# Altium footprint library DXPpcb.PCBLIB: 575 footprints (part 15 of 36)
Each footprint in its own frame and in the unit in brackets; x right, y up, seen from the top. Pads: shape width x height; smd on the part's side, far side on the other; paste and mask are expansions set on the pad; w line width, h text height; cw(c..) or ccw(c..) is an arc to the next point about the centre after c.
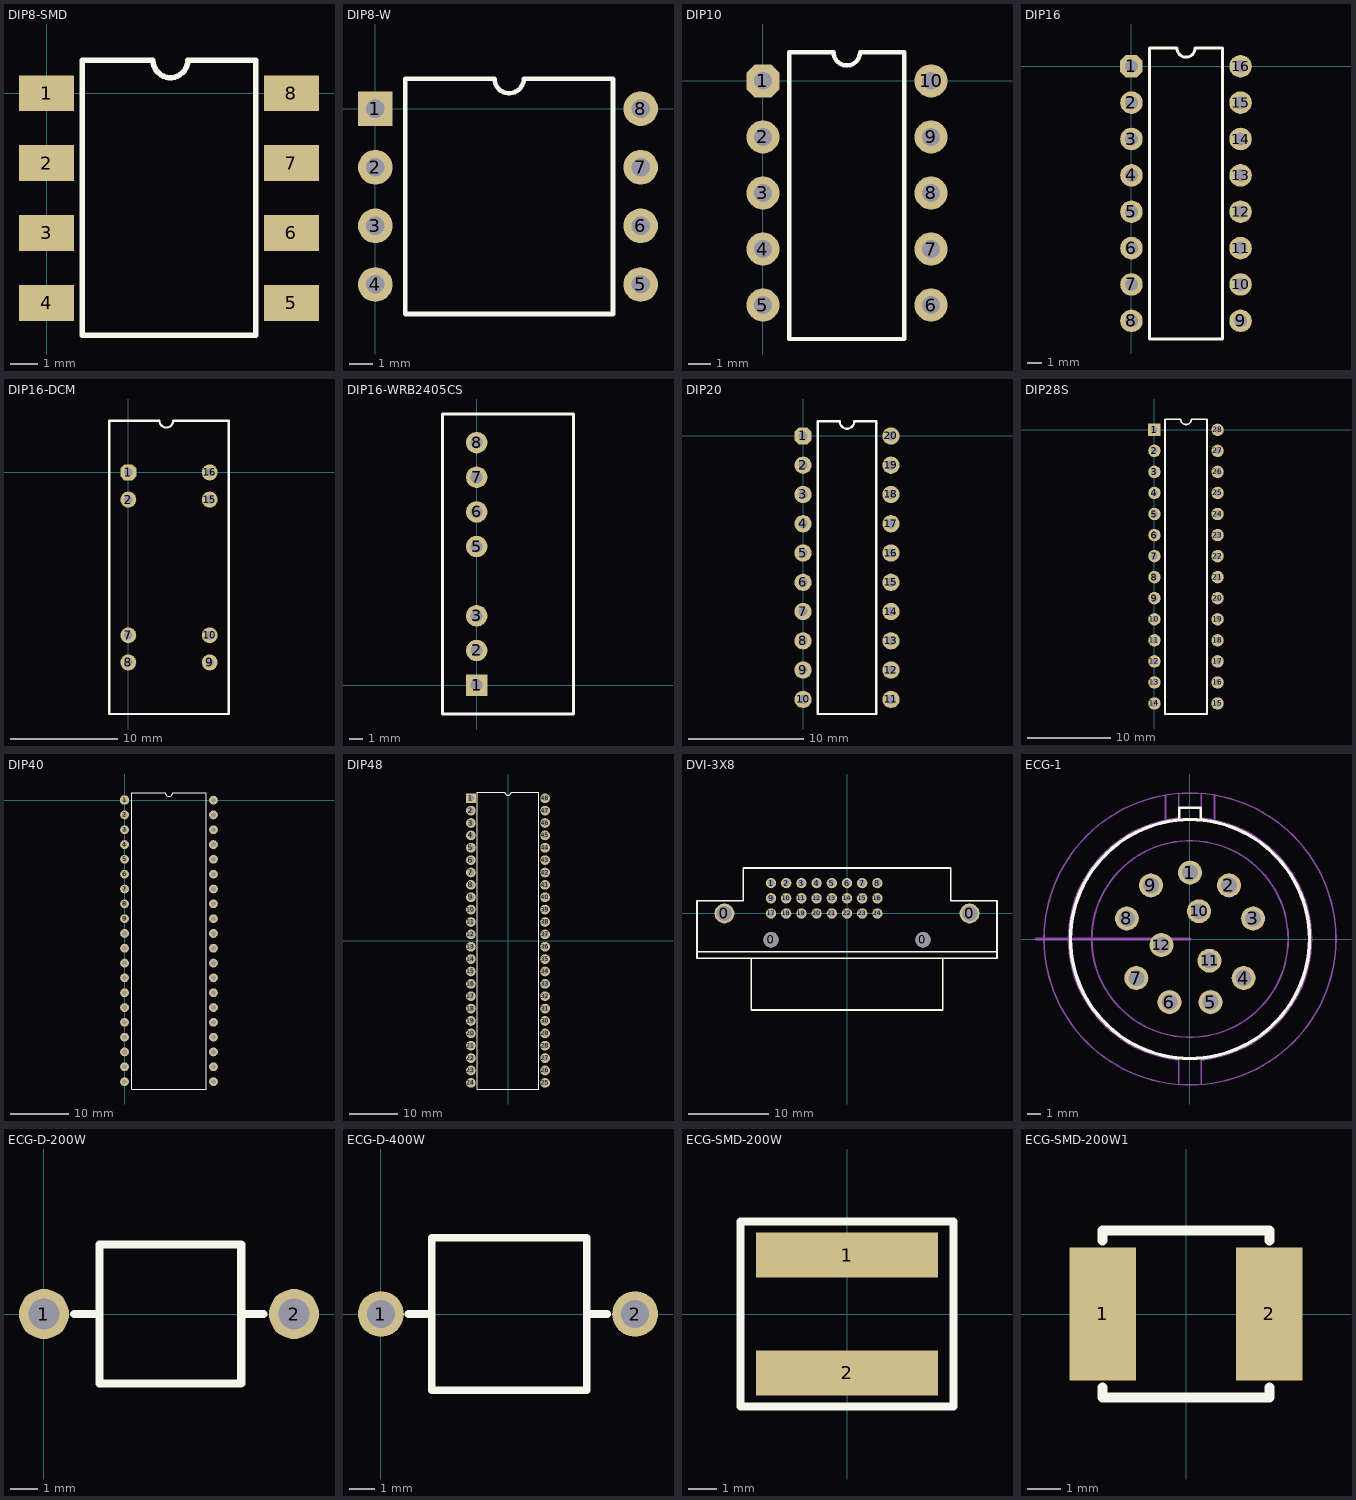
[diagram p14: the footprints below, top view; thin cyan lines are the x and y axes]

## DIP8-SMD [mm]
pads (8):
  rect 2x1.3 smd: 1(0,0) 2(0,-2.54) 3(0,-5.08) 4(0,-7.62) 5(8.9,-7.62) 6(8.9,-5.08) 7(8.9,-2.54) 8(8.9,0)
TopOverlay:
  lines w0.2: 1.3,-8.8 1.3,1.2 3.865,1.2 ccw(c4.5,1.2) 5.135,1.2 7.6,1.2 7.6,-8.8 1.3,-8.8

## DIP8-W [mm]
pads (8):
  rect 1.5x1.5 hole 0.8: 1(0,0)
  round 1.5 hole 0.8: 2(0,-2.54) 3(0,-5.08) 4(0,-7.62) 5(11.5,-7.62) 6(11.5,-5.08) 7(11.5,-2.54) 8(11.5,0)
TopOverlay:
  lines w0.2: 1.3,-8.9 10.3,-8.9 10.3,1.3 6.435,1.3 cw(c5.8,1.3) 5.165,1.3 1.3,1.3 1.3,-8.9

## DIP10 [mm]
pads (10):
  oct 1.5x1.5 hole 0.8: 1(0,0)
  round 1.5 hole 0.8: 2(0,-2.54) 3(0,-5.08) 4(0,-7.62) 5(0,-10.16) 6(7.62,-10.16) 7(7.62,-7.62) 8(7.62,-5.08) 9(7.62,-2.54) 10(7.62,0)
TopOverlay:
  lines w0.2: 1.2,-11.7 6.4,-11.7 6.4,1.3 4.4,1.3 cw(c3.8,1.3) 3.2,1.3 1.2,1.3 1.2,-11.7

## DIP16 [mil]
pads (16):
  oct 62x62 hole 35: 1(0,0)
  round 62 hole 35: 2(0,-100) 3(0,-200) 4(0,-300) 5(0,-400) 6(0,-500) 7(0,-600) 8(0,-700) 9(300,-700) 10(300,-600) 11(300,-500) 12(300,-400) 13(300,-300) 14(300,-200) 15(300,-100) 16(300,0)
TopOverlay:
  lines w7.87: 50,-750 250,-750 250,50 175,50 cw(c150,50) 125,50 50,50 50,-750

## DIP16-DCM [mm]
pads (8):
  oct 1.5x1.5 hole 0.8: 1(0,0)
  round 1.5 hole 0.8: 2(0,-2.54) 7(0,-15.24) 8(0,-17.78) 9(7.62,-17.78) 10(7.62,-15.24) 15(7.62,-2.54) 16(7.62,0)
TopOverlay:
  lines w0.2: -1.778,-22.606 -1.778,4.826 2.921,4.826 ccw(c3.556,4.826) 4.191,4.826 9.398,4.826 9.398,-22.606 -1.778,-22.606

## DIP16-WRB2405CS [mil]
pads (7):
  rect 62x62 hole 35: 1(0,0)
  round 62 hole 35: 2(0,100) 3(0,200) 5(0,400) 6(0,500) 7(0,600) 8(0,700)
TopOverlay:
  lines w7.87: -98.43,-83.46 -98.43,782.68 279.53,782.68 279.53,-83.46 -98.43,-83.46

## DIP20 [mm]
pads (20):
  oct 1.5x1.5 hole 0.8: 1(0,0)
  round 1.5 hole 0.8: 2(0,-2.54) 3(0,-5.08) 4(0,-7.62) 5(0,-10.16) 6(0,-12.7) 7(0,-15.24) 8(0,-17.78) 9(0,-20.32) 10(0,-22.86) 11(7.62,-22.86) 12(7.62,-20.32) 13(7.62,-17.78) 14(7.62,-15.24) 15(7.62,-12.7) 16(7.62,-10.16) 17(7.62,-7.62) 18(7.62,-5.08) 19(7.62,-2.54) 20(7.62,0)
TopOverlay:
  lines w0.2: 1.27,-24.13 1.27,1.27 3.175,1.27 ccw(c3.81,1.27) 4.445,1.27 6.35,1.27 6.35,-24.13 1.27,-24.13

## DIP28S [mm]
pads (28):
  rect 1.5x1.5 hole 0.8: 1(0,0)
  round 1.5 hole 0.8: 2(0,-2.54) 3(0,-5.08) 4(0,-7.62) 5(0,-10.16) 6(0,-12.7) 7(0,-15.24) 8(0,-17.78) 9(0,-20.32) 10(0,-22.86) 11(0,-25.4) 12(0,-27.94) 13(0,-30.48) 14(0,-33.02) 15(7.62,-33.02) 16(7.62,-30.48) 17(7.62,-27.94) 18(7.62,-25.4) 19(7.62,-22.86) 20(7.62,-20.32) 21(7.62,-17.78) 22(7.62,-15.24) 23(7.62,-12.7) 24(7.62,-10.16) 25(7.62,-7.62) 26(7.62,-5.08) 27(7.62,-2.54) 28(7.62,0)
TopOverlay:
  lines w0.2: 1.27,-34.29 1.27,1.27 3.175,1.27 ccw(c3.81,1.27) 4.445,1.27 6.35,1.27 6.35,-34.29 1.27,-34.29

## DIP40 [mm]
pads (40):
  oct 1.5x1.5 hole 0.8: 1(0,0)
  round 1.5 hole 0.8: 2(0,-2.54) 3(0,-5.08) 4(0,-7.62) 5(0,-10.16) 6(0,-12.7) 7(0,-15.24) 8(0,-17.78) 9(0,-20.32) 10(0,-22.86) 11(0,-25.4) 12(0,-27.94) 13(0,-30.48) 14(0,-33.02) 15(0,-35.56) 16(0,-38.1) 17(0,-40.64) 18(0,-43.18) 19(0,-45.72) 20(0,-48.26) 21(15.24,-48.26) 22(15.24,-45.72) 23(15.24,-43.18) 24(15.24,-40.64) 25(15.24,-38.1) 26(15.24,-35.56) 27(15.24,-33.02) 28(15.24,-30.48) 29(15.24,-27.94) 30(15.24,-25.4) 31(15.24,-22.86) 32(15.24,-20.32) 33(15.24,-17.78) 34(15.24,-15.24) 35(15.24,-12.7) 36(15.24,-10.16) 37(15.24,-7.62) 38(15.24,-5.08) 39(15.24,-2.54) 40(15.24,0)
TopOverlay:
  lines w0.2: 1.27,-49.53 13.97,-49.53 13.97,1.27 8.255,1.27 cw(c7.62,1.27) 6.985,1.27 1.27,1.27 1.27,-49.53

## DIP48 [mm]
pads (48):
  rect 2x2 hole 1.2: 1(-7.62,29.21)
  round 2 hole 1.2: 2(-7.62,26.67) 3(-7.62,24.13) 4(-7.62,21.59) 5(-7.62,19.05) 6(-7.62,16.51) 7(-7.62,13.97) 8(-7.62,11.43) 9(-7.62,8.89) 10(-7.62,6.35) 11(-7.62,3.81) 12(-7.62,1.27) 13(-7.62,-1.27) 14(-7.62,-3.81) 15(-7.62,-6.35) 16(-7.62,-8.89) 17(-7.62,-11.43) 18(-7.62,-13.97) 19(-7.62,-16.51) 20(-7.62,-19.05) 21(-7.62,-21.59) 22(-7.62,-24.13) 23(-7.62,-26.67) 24(-7.62,-29.21) 25(7.62,-29.21) 26(7.62,-26.67) 27(7.62,-24.13) 28(7.62,-21.59) 29(7.62,-19.05) 30(7.62,-16.51) 31(7.62,-13.97) 32(7.62,-11.43) 33(7.62,-8.89) 34(7.62,-6.35) 35(7.62,-3.81) 36(7.62,-1.27) 37(7.62,1.27) 38(7.62,3.81) 39(7.62,6.35) 40(7.62,8.89) 41(7.62,11.43) 42(7.62,13.97) 43(7.62,16.51) 44(7.62,19.05) 45(7.62,21.59) 46(7.62,24.13) 47(7.62,26.67) 48(7.62,29.21)
TopOverlay:
  lines w0.254: -6.35,-30.48 6.35,-30.48 6.35,30.48 0.635,30.48 cw(c0,30.48) -0.635,30.48 -6.35,30.48 -6.35,-30.48

## DVI-3X8 [mm]
pads (28):
  round 2.5 hole 1.93: 0(-15.365,0) 0(15.365,0)
  round 1.93 hole 1.93: 0(-9.525,-3.3) 0(9.525,-3.3)
  round 1.3 hole 0.86: 1(-9.525,3.81) 2(-7.62,3.81) 3(-5.715,3.81) 4(-3.81,3.81) 5(-1.905,3.81) 6(0,3.81) 7(1.905,3.81) 8(3.81,3.81) 9(-9.525,1.905) 10(-7.62,1.905) 11(-5.715,1.905) 12(-3.81,1.905) 13(-1.905,1.905) 14(0,1.905) 15(1.905,1.905) 16(3.81,1.905) 17(-9.525,0) 18(-7.62,0) 19(-5.715,0) 20(-3.81,0) 21(-1.905,0) 22(0,0) 23(1.905,0) 24(3.81,0)
TopOverlay:
  lines w0.2: -18.8,-4.8 18.8,-4.8 ; -12,-5.6 -18.8,-5.6 -18.8,1.6 -13,1.6 -13,5.7 13,5.7 13,1.6 18.8,1.6 18.8,-5.6 12,-5.6 ; -12,-5.6 -12,-12.1 12,-12.1 12,-5.6 ; -12,-5.6 12,-5.6

## ECG-1 [mm]
pads (12):
  round 1.8 hole 1.2: 1(0,5) 2(2.938,4.046) 3(4.755,1.546) 4(4.046,-2.938) 5(1.546,-4.755) 6(-1.544,-4.755) 7(-4.045,-2.939) 8(-4.755,1.544) 9(-2.939,4.045) 10(0.68,2.092) 11(1.472,-1.635) 12(-2.152,-0.457)
TopOverlay:
  circle w0.254: c0,0 r9
  lines w0.2: -0.8,9 -0.8,9.9 0.8,9.9 0.8,9
Mechanical3:
  circle w0.127: c2.938,4.046 r0.5
  circle w0.127: c-2.94,4.045 r0.5
  circle w0.127: c-4.756,1.544 r0.5
  circle w0.127: c-0.001,5 r0.5
  circle w0.127: c-4.045,-2.94 r0.5
  circle w0.127: c0,0 r7.4
  circle w0.127: c0,0 r11
  circle w0.127: c4.046,-2.938 r0.5
  circle w0.127: c4.755,1.546 r0.5
  circle w0.127: c-1.544,-4.756 r0.5
  circle w0.127: c1.546,-4.755 r0.5
  lines w0.127: -5.631,1.544 -3.881,1.544 ; -4.92,-2.94 -3.17,-2.94 ; -4.756,0.669 -4.756,2.419 ; -4.045,-3.815 -4.045,-2.065 ; -3.815,4.045 -2.065,4.045 ; -2.94,3.17 -2.94,4.92 ; -2.419,-4.756 -0.669,-4.756 ; -1.85,8.961 -1.85,10.843 ; -1.544,-5.631 -1.544,-3.881 ; -0.876,5 0.874,5 ; -0.85,10.967 -0.85,9.11 ccw(c0,0) -0.847,-9.111 -0.847,-10.967 ; -0.001,4.125 -0.001,5.875 ; 0.671,-4.755 2.421,-4.755 ; 0.85,10.967 0.85,9.11 cw(c0,0) 0.853,-9.11 0.853,-10.967 ; 1.546,-5.63 1.546,-3.88 ; 1.85,8.961 1.85,10.843 ; 2.063,4.046 3.813,4.046 ; 2.938,3.171 2.938,4.921 ; 3.171,-2.938 4.921,-2.938 ; 3.88,1.546 5.63,1.546 ; 4.046,-3.813 4.046,-2.063 ; 4.755,0.671 4.755,2.421
  lines w0.2: -11.6,0 0,0

## ECG-D-200W [mm]
pads (2):
  round 1.8 hole 1.1: 1(0,0) 2(9,0)
TopOverlay:
  lines w0.3: 1.084,0 2,0 ; 7.1,0 7.9,0 ; 2,-2.5 2,2.5 7.1,2.5 7.1,-2.5 2,-2.5

## ECG-D-400W [mm]
pads (2):
  round 1.8 hole 1.1: 1(0,0) 2(10,0)
TopOverlay:
  lines w0.3: 1.084,0 2,0 ; 8.1,0 8.9,0 ; 2,-3 2,3 8.1,3 8.1,-3 2,-3

## ECG-SMD-200W [mm]
pads (2):
  rect 6.5x1.6 smd: 1(0,2.1) 2(0,-2.1)
TopOverlay:
  lines w0.3: -3.8,-3.3 3.8,-3.3 3.8,3.3 -3.8,3.3 -3.8,-3.3

## ECG-SMD-200W1 [mm]
pads (2):
  rect 2x4 smd: 1(-2.511,0.005) 2(2.489,0.005)
TopOverlay:
  lines w0.3: -2.511,-2.195 -2.511,-2.495 2.489,-2.495 2.489,-2.195 ; -2.511,2.205 -2.511,2.505 2.489,2.505 2.489,2.205